# Altium schematic symbol library Ad_Hoc_Parts.SchLib: 7 symbols
Pins are listed as number, name and electrical type; pins without a type are passive.

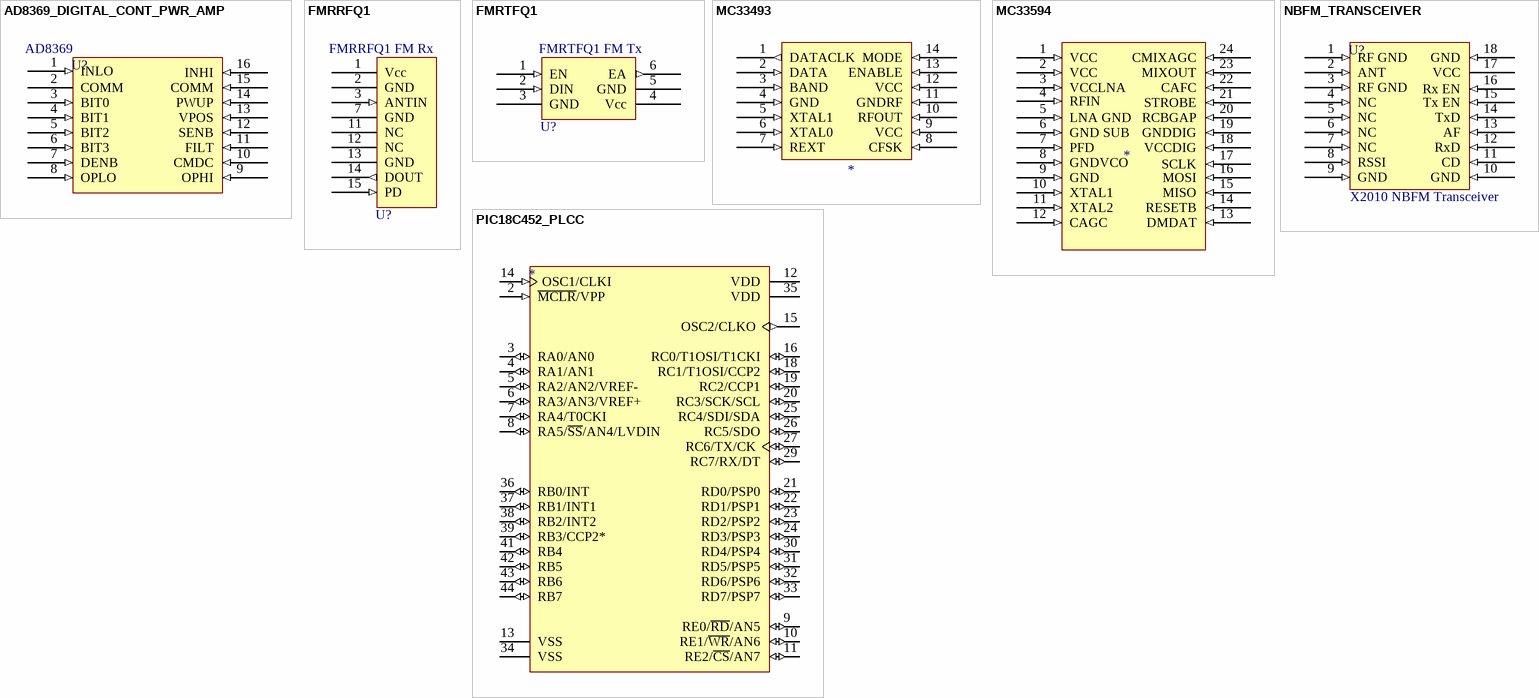
[diagram p0: symbols AD8369_DIGITAL_CONT_PWR_AMP to PIC18C452_PLCC]

## AD8369_DIGITAL_CONT_PWR_AMP
designator U?, comment AD8369
footprint TSSOP16_RU-16
pins: 1 INLO (in), 2 COMM (power), 3 BIT0 (in), 4 BIT1 (in), 5 BIT2 (in), 6 BIT3 (in), 7 DENB (in), 8 OPLO (in), 9 OPHI (in), 10 CMDC (in), 11 FILT (in), 12 SENB (in), 13 VPOS (in), 14 PWUP (in), 15 COMM (in), 16 INHI (in)

## FMRRFQ1
designator U?, comment FMRRFQ1 FM Rx
footprint FMRRFQ1
pins: 1 Vcc, 2 GND, 3 ANTIN (in), 7 GND, 11 NC, 12 NC, 13 GND, 14 DOUT (out), 15 PD (in)

## FMRTFQ1
designator U?, comment FMRTFQ1 FM Tx
footprint FMRTFQ1
pins: 1 EN (in), 2 DIN (in), 3 GND, 4 Vcc, 5 GND, 6 EA (out)

## MC33493
designator *
pins: 1 DATACLK (out), 2 DATA (in), 3 BAND (in), 4 GND (in), 5 XTAL1 (in), 6 XTAL0 (in), 7 REXT (in), 8 CFSK (in), 9 VCC (in), 10 RFOUT (in), 11 GNDRF (in), 12 VCC (in), 13 ENABLE (in), 14 MODE (in)

## MC33594
designator *
pins: 1 VCC (in), 2 VCC (in), 3 VCCLNA (in), 4 RFIN (in), 5 LNA GND (in), 6 GND SUB (in), 7 PFD (in), 8 GNDVCO (in), 9 GND (in), 10 XTAL1 (in), 11 XTAL2 (in), 12 CAGC (in), 13 DMDAT (in), 14 RESETB (in), 15 MISO (in), 16 MOSI (in), 17 SCLK (in), 18 VCCDIG (in), 19 GNDDIG (in), 20 RCBGAP (in), 21 STROBE (in), 22 CAFC (in), 23 MIXOUT (in), 24 CMIXAGC (in)

## NBFM_TRANSCEIVER
designator U?, comment X2010 NBFM Transceiver
footprint X2010
pins: 1 RF GND (in), 2 ANT (in), 3 RF GND (in), 4 NC (in), 5 NC (in), 6 NC (in), 7 NC (in), 8 RSSI (in), 9 GND (in), 10 GND (in), 11 CD (in), 12 RxD (in), 13 AF (in), 14 TxD (in), 15 Tx EN (in), 16 Rx EN (in), 17 VCC (power), 18 GND (in)

## PIC18C452_PLCC
designator *
footprint PIC18C452_PLCC - duplicate
pins: 2 ~{MCLR}/VPP (in), 3 RA0/AN0 (io), 4 RA1/AN1 (io), 5 RA2/AN2/VREF- (io), 6 RA3/AN3/VREF+ (io), 7 RA4/T0CKI (io), 8 RA5/~{SS}/AN4/LVDIN (io), 9 RE0/~{RD}/AN5 (io), 10 RE1/~{WR}/AN6 (io), 11 RE2/~{CS}/AN7 (io), 12 VDD (power), 13 VSS (power), 14 OSC1/CLKI (in), 15 OSC2/CLKO (out), 16 RC0/T1OSI/T1CKI (io), 18 RC1/T1OSI/CCP2 (io), 19 RC2/CCP1 (io), 20 RC3/SCK/SCL (io), 21 RD0/PSP0 (io), 22 RD1/PSP1 (io), 23 RD2/PSP2 (io), 24 RD3/PSP3 (io), 25 RC4/SDI/SDA (io), 26 RC5/SDO (io), 27 RC6/TX/CK (io), 29 RC7/RX/DT (io), 30 RD4/PSP4 (io), 31 RD5/PSP5 (io), 32 RD6/PSP6 (io), 33 RD7/PSP7 (io), 34 VSS (power), 35 VDD (power), 36 RB0/INT (io), 37 RB1/INT1 (io), 38 RB2/INT2 (io), 39 RB3/CCP2* (io), 41 RB4 (io), 42 RB5 (io), 43 RB6 (io), 44 RB7 (io)